# Altium schematic symbol library PCB_LSH-120.SchLib: 5 symbols
Pins are listed as number, name and electrical type; pins without a type are passive.

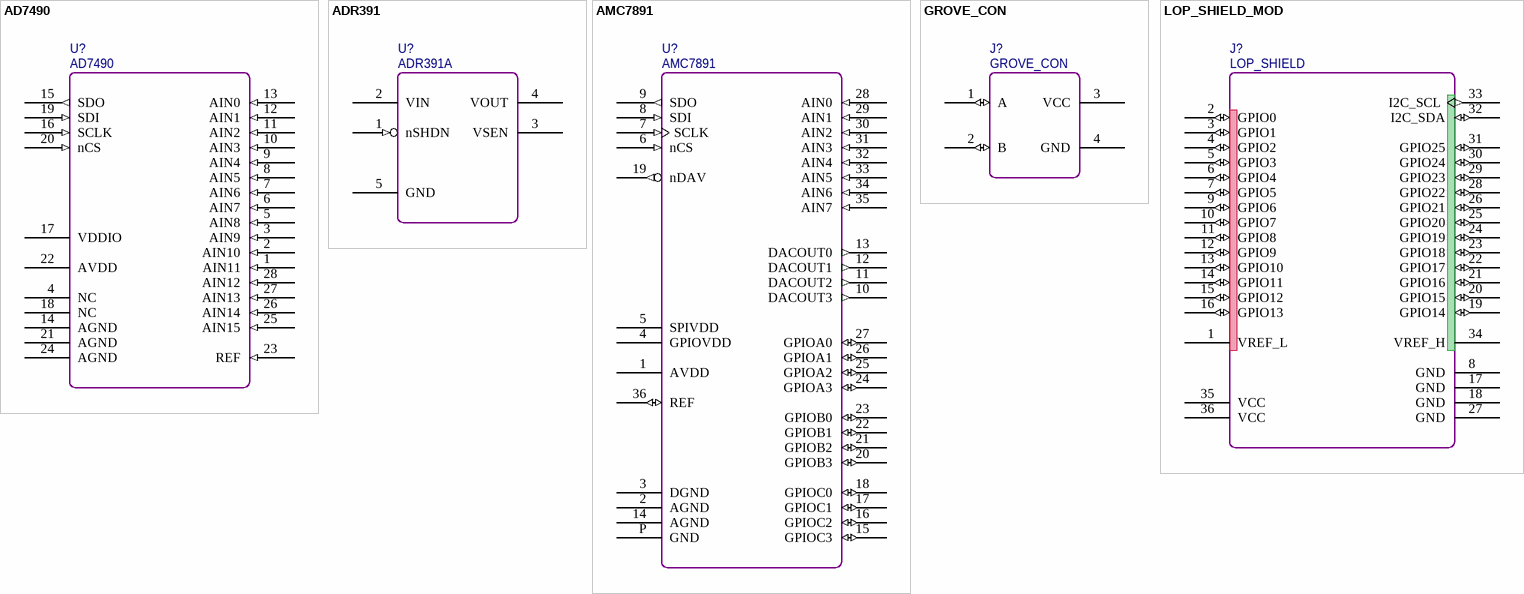
[diagram p0: symbols AD7490 to LOP_SHIELD_MOD]

## AD7490
designator U?
16 Inputs MUX ADC / 12-Bit 1Msps; Vendor: ADI; SerialNumber: 0; PinCountSMD: 28; Designer: shyul; PartNumber: AD7490; Value: AD7490; Version: 1.0; VersionDate: 04-04-2012; PCBMarker: ADC; Publisher: Cowin; PinCountHole: 0
footprint TSSOP-28
pins: 1 AIN11 (in), 2 AIN10 (in), 3 AIN9 (in), 4 NC, 5 AIN8 (in), 6 AIN7 (in), 7 AIN6 (in), 8 AIN5 (in), 9 AIN4 (in), 10 AIN3 (in), 11 AIN2 (in), 12 AIN1 (in), 13 AIN0 (in), 14 AGND, 15 SDO (out), 16 SCLK (in), 17 VDDIO, 18 NC, 19 SDI (in), 20 nCS (in), 21 AGND, 22 AVDD, 23 REF (in), 24 AGND, 25 AIN15 (in), 26 AIN14 (in), 27 AIN13 (in), 28 AIN12 (in)

## ADR391
designator U?, comment ADR391A
16 Inputs MUX ADC / 12-Bit 1Msps; PartNumber: ADR391AUJZ; Vendor: TI; SerialNumber: 0; PinCountSMD: 37; Designer: shyul; Value: ADR391A; Version: 1.0; VersionDate: 04-04-2012; PCBMarker: ADC; Publisher: Cowin; PinCountHole: 0
footprint SOT-23-5
pins: 1 nSHDN (in), 2 VIN, 3 VSEN, 4 VOUT, 5 GND

## AMC7891
designator U?
Integrated DAC/ADC; Vendor: TI; SerialNumber: 0; PCBMarker: FET COMP; PinCountSMD: 37; Designer: shyul; PartNumber: AMC7891; Value: AMC7891; Version: 1.0; VersionDate: 02-22-2012; Publisher: Cowin; PinCountHole: 0
footprint QFN-6-36
pins: 1 AVDD, 2 AGND, 3 DGND, 4 GPIOVDD, 5 SPIVDD, 6 nCS (in), 7 SCLK (in), 8 SDI (in), 9 SDO (out), 10 DACOUT3 (out), 11 DACOUT2 (out), 12 DACOUT1 (out), 13 DACOUT0 (out), 14 AGND, 15 GPIOC3 (io), 16 GPIOC2 (io), 17 GPIOC1 (io), 18 GPIOC0 (io), 19 nDAV (out), 20 GPIOB3 (io), 21 GPIOB2 (io), 22 GPIOB1 (io), 23 GPIOB0 (io), 24 GPIOA3 (io), 25 GPIOA2 (io), 26 GPIOA1 (io), 27 GPIOA0 (io), 28 AIN0 (in), 29 AIN1 (in), 30 AIN2 (in), 31 AIN3 (in), 32 AIN4 (in), 33 AIN5 (in), 34 AIN6 (in), 35 AIN7 (in), 36 REF (io), P GND

## GROVE_CON
designator J?
Grove Connector; Vendor: 0; PinCountHole: 4; Designer: shyul; Value: GROVE_CON; PartNumber: GROVE_CON; Version: 1.0; VersionDate: 04-04-2012; PinCountSMD: 0; SerialNumber: 0; Publisher: Cowin; PCBMarker: GROVE_CON
footprint PHB-4A
pins: 1 A (io), 2 B (io), 3 VCC, 4 GND
2 alternate drawings of the same symbol

## LOP_SHIELD_MOD
designator J?, comment LOP_SHIELD
Lophilo Shield Module Slot; Vendor: 0; PinCountHole: 36; Designer: shyul; Value: LOP_SHIELD; PartNumber: LOP_SHIELD; Version: 1.0; VersionDate: 03-19-2012; PinCountSMD: 0; SerialNumber: 0; Publisher: Cowin; PCBMarker: LOP_SHIELD
footprint LOP_SHIELD_MOD (Footprint not found)
pins: 1 VREF_L, 2 GPIO0 (io), 3 GPIO1 (io), 4 GPIO2 (io), 5 GPIO3 (io), 6 GPIO4 (io), 7 GPIO5 (io), 8 GND, 9 GPIO6 (io), 10 GPIO7 (io), 11 GPIO8 (io), 12 GPIO9 (io), 13 GPIO10 (io), 14 GPIO11 (io), 15 GPIO12 (io), 16 GPIO13 (io), 17 GND, 18 GND, 19 GPIO14 (io), 20 GPIO15 (io), 21 GPIO16 (io), 22 GPIO17 (io), 23 GPIO18 (io), 24 GPIO19 (io), 25 GPIO20 (io), 26 GPIO21 (io), 27 GND, 28 GPIO22 (io), 29 GPIO23 (io), 30 GPIO24 (io), 31 GPIO25 (io), 32 I2C_SDA (io), 33 I2C_SCL (out), 34 VREF_H, 35 VCC (power), 36 VCC (power)
2 alternate drawings of the same symbol